# Altium schematic symbol library DE-260124.SchLib: 109 symbols (part 2 of 2)
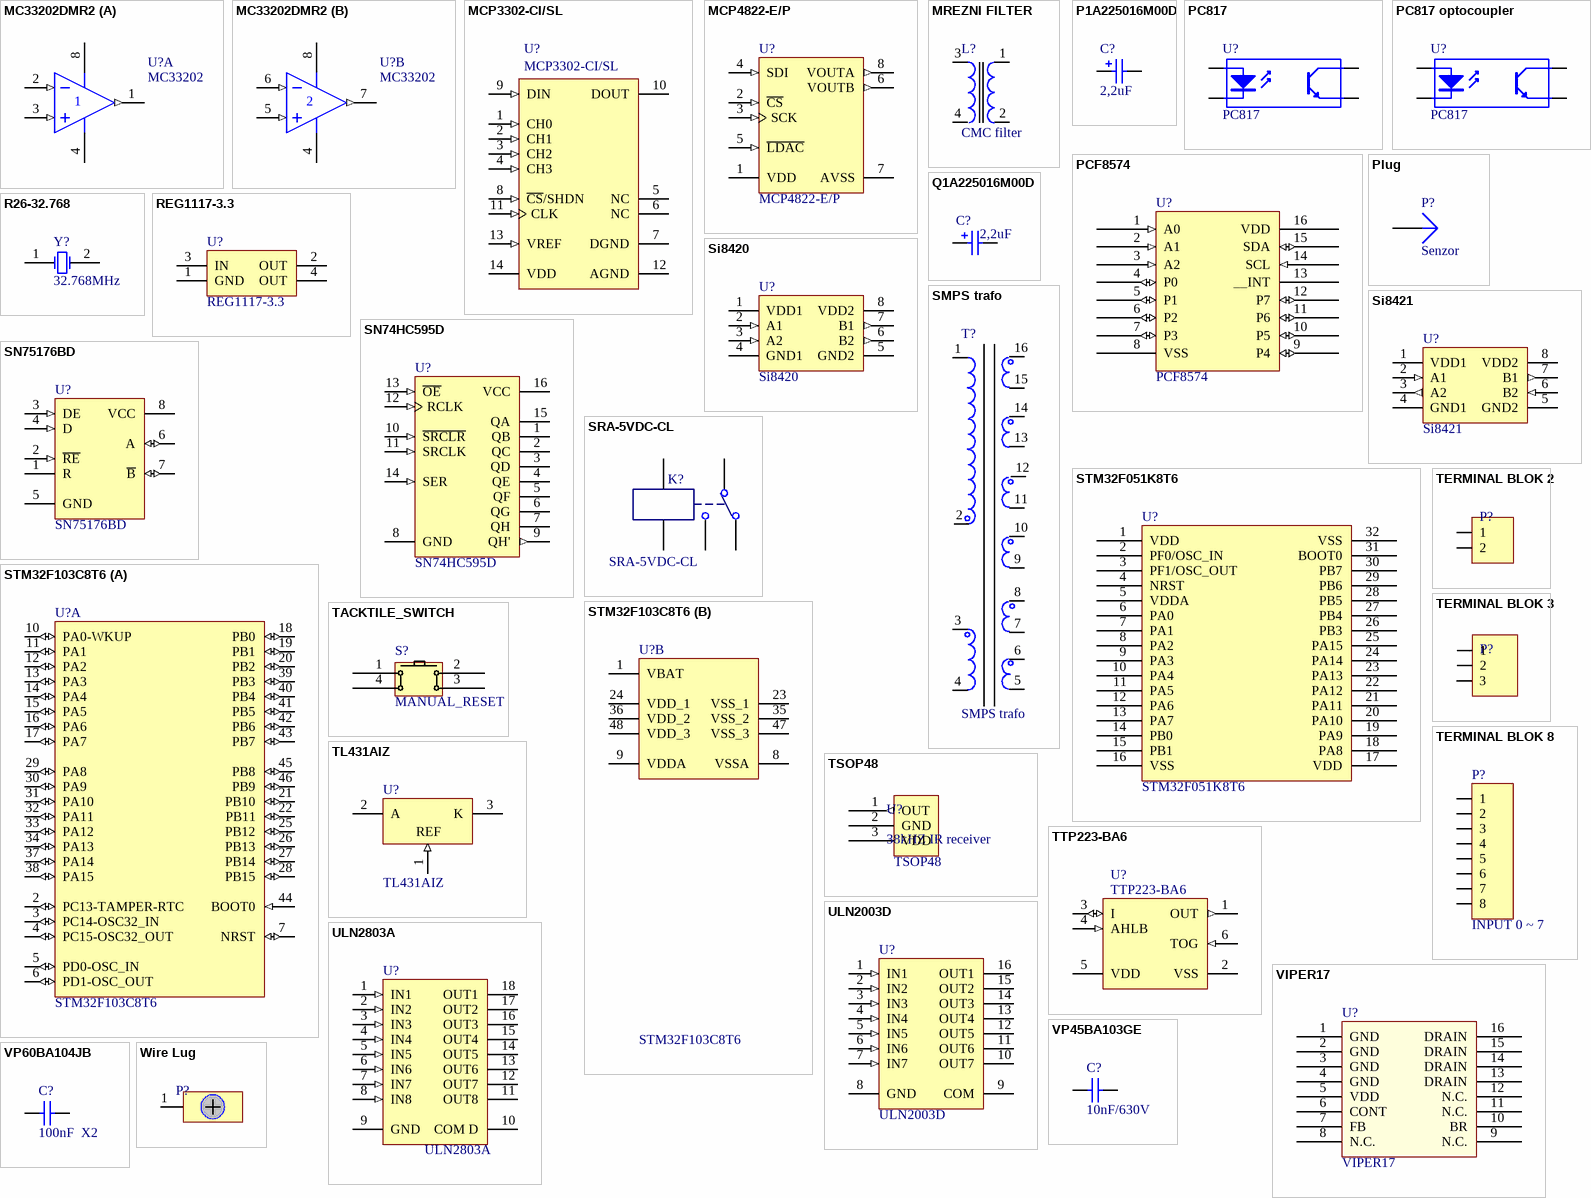
[diagram p3: symbols MC33202DMR2 to Wire Lug]

## MCP4822-E/P
designator U?
12-Bit DACs with Internal VREF and SPI Interface, 8-Pin PDIP, Extended Temperature; Published: 29-Jan-2009; DatasheetVersion: revA, Jun-2005; PackageVersion: revBB, Aug-2009; PackageReference: PDIP300-P8; Publisher: Altium Limited; PackageDescription: 8-Lead Plastic Dual In-Line (P) - 300 mil Body [PDIP]; Supplier 1: Digi-Key; Supplier Part Number 1: MCP4822-E/P-ND; Supplier 2: Farnell; Supplier Part Number 2: 1439413; Code_JEDEC: MS-001; ComponentLink1Description: Datasheet; ComponentLink1URL: http://ww1.microchip.com/downloads/en/DeviceDoc/21953a.pdf; ComponentLink2Description: Packaging Specification; ComponentLink2URL: http://www.microchip.com/stellent/groups/techpub_sg/documents/packagingspec/en012702.pdf; ComponentLink3Description: Microchip.com Home; ComponentLink3URL: http://www.microchip.com/
footprint PDIP300-P8 (DIP, 8-Leads, Row Spacing 7.62mm, Pitch 2.54mm, Body 9.5x6.6mm)
pins: 1 VDD (power), 2 ~{CS} (in), 3 SCK (in), 4 SDI (in), 5 ~{LDAC} (in), 6 VOUTB (out), 7 AVSS (power), 8 VOUTA (out)

## MREZNI FILTER
designator L?, comment CMC filter
footprint MREZNI FILTER (Filter mrežnih smetnji)
pins: 1, 2, 3, 4

## P1A225016M00D
designator C?, comment 2,2uF
Resin-Coated, Radial-Leaded Solid Tantalum Capacitor: 2.2uF, 20% Tolerance, UR = 16 Volt @ +85°C, Surge = 20.8V; Note: See Data Sheet for full range of components; Published: 19-Mar-2004; DatasheetDocument: 28-Mar-2002; PackageReference: ETPW-1A; Publisher: Altium Limited; ComponentLink1Description: Manufacturer Link; ComponentLink1URL: http://www.vishay.com/; ComponentLink2Description: Datasheet; ComponentLink2URL: http://www.vishay.com/docs/42074/etpw.pdf; Value: 2.2uF
footprint ETPW-1A (Capacitor, Tantalum Bead; Body 4 x 7.1 mm (Dia.xH max); Pin Spacing 2.5 mm (typ))
simulation model CAP (Capacitor)
signal-integrity model P1A225016M00D
pins: 1, 2
1 alternate drawing of the same symbol

## PC817
designator U?
4-Pin Phototransistor Optocoupler; Published: 24-Mar-1999; LatestRevisionDate: 04-Mar-2005; LatestRevisionNote: Sch pins 3 & 4 Swapped.; DatasheetVersion: Nov-2003; PackageReference: DIP-4; Publisher: Altium Limited
footprint DIP-4 (DIP; 4 Leads; Row Spacing 7.62 mm; Pitch 2.54 mm)
pins: 1 A "Anode", 2 K "Cathode", 3 E "Emitter", 4 C "Collector"

## PC817 optocoupler
designator U?, comment PC817
4-Pin Phototransistor Optocoupler; Published: 24-Mar-1999; LatestRevisionDate: 04-Mar-2005; LatestRevisionNote: Sch pins 3 & 4 Swapped.; DatasheetVersion: Nov-2003; PackageReference: DIP-4; Publisher: Altium Limited
footprint SOP4
pins: 1 A "Anode", 2 K "Cathode", 3 E "Emitter", 4 C "Collector"

## PCF8574
designator U?
Remote 8-bit I/O expander for I2C-bus
footprint DIP16
pins: 1 A0 (in), 2 A1 (in), 3 A2 (in), 4 P0 (io), 5 P1 (io), 6 P2 (io), 7 P3 (io), 8 VSS (power), 9 P4 (io), 10 P5 (io), 11 P6 (io), 12 P7 (io), 13 __INT, 14 SCL (in), 15 SDA (io), 16 VDD (power)

## Plug
designator P?, comment Senzor
Plug; LatestRevisionDate: 17-Jul-2002; LatestRevisionNote: Re-released for DXP Platform.; Publisher: Altium Limited
footprint PIN1 (Connector; Plug)
signal-integrity model Connector
pins: 1

## Q1A225016M00D
designator C?, comment 2,2uF
Resin-Coated, Radial-Lead Solid Tantalum Capacitor: 2.2uF, 20% Tolerance, UR = 16 Volt @ +85°C, Surge = 20.8V; Note: See Data Sheet for full range of components; Published: 19-Mar-2004; DatasheetDocument: 28-Mar-2002; PackageReference: ETQW-1A; Publisher: Altium Limited; ComponentLink1Description: Manufacturer Link; ComponentLink1URL: http://www.vishay.com/; ComponentLink2Description: Datasheet; ComponentLink2URL: http://www.vishay.com/docs/42075/etqw.pdf; Value: 2.2uF
footprint ETQW-1A (Capacitor, Tantalum Bead; Body 4.5 x 7.5 mm (Dia.xH max); Pin Spacing 2.5 mm (typ))
simulation model CAP (Capacitor)
signal-integrity model Q1A225016M00D
pins: 1, 2
1 alternate drawing of the same symbol

## R26-32.768
designator Y?, comment 32.768MHz
Tuning Fork Crystal Unit; Published: 8-Jun-2000; LatestRevisionDate: 17-Jul-2002; LatestRevisionNote: Re-released for DXP Platform.; DatasheetDocument: 28-Sep-1998; PackageReference: R26; Publisher: Altium Limited; ComponentLink1Description: Manufacturer Link; ComponentLink1URL: http://www.raltron.com/products/microcrystals/default.asp; ComponentLink2Description: Datasheet; ComponentLink2URL: http://www.raltron.com/products/pdfspecs/crystal_r38_26_145.pdf
footprint R26 (Crystal, Thru-Hole; 2 Leads; Body 2.1 x 6.2 mm (Dia.xH))
simulation model R26-32.768 (SUBCKT)
pins: 1 OSC1, 2 OSC2

## REG1117-3.3
designator U?
800mA and 1A Low Dropout Positive Regulator 2.85V, 3.3V, 5V, and Adjustable; Published: 8-Jun-2000; LatestRevisionDate: 17-Jul-2002; LatestRevisionNote: Re-released for DXP Platform.; DatasheetVersion: Sep-1997; PackageVersion: revC; PackageReference: ZZ311; Publisher: Altium Limited; PackageDescription: SOT-223/SC-73; 4 Leads; Body 6.7 x 7.3 mm, inc. leads (LxW max); ComponentLink1Description: Manufacturer Link; ComponentLink1URL: http://www.ti.com/; ComponentLink2Description: Datasheet; ComponentLink2URL: http://www-s.ti.com/sc/ds/REG1117.pdf
footprint ZZ311 (SOT-223/SC-73; 4 Leads; Body 6.7 x 7.3 mm, inc. leads (LxW max))
pins: 1 GND (power), 2 OUT (power), 3 IN (power), 4 OUT (power)

## Si8420
designator U?
Silicon Labs digital signal isolator
footprint SOP8
pins: 1 VDD1 (power), 2 A1 (in), 3 A2 (in), 4 GND1 (power), 5 GND2 (power), 6 B2 (out), 7 B1 (out), 8 VDD2 (power)

## Si8421
designator U?
Silicon Labs low power dual chanel digital isolator
footprint SOP8
pins: 1 VDD1 (power), 2 A1 (in), 3 A2 (out), 4 GND1 (power), 5 GND2 (power), 6 B2 (in), 7 B1 (out), 8 VDD2 (power)

## SMPS trafo
designator T?
SMPS EI core ferrite trafo
footprint PSU trafo (SMPSU feritni trafo)
pins: 1, 2, 3, 4, 5, 6, 7, 8, 9, 10, 11, 12, 13 113, 14 114, 15 115, 16 116

## SN74HC595D
designator U?
8-Bit Shift Register with 3-State Output Registers; Published: 8-Jun-2000; LatestRevisionDate: 13-Apr-2006; LatestRevisionNote: IPC-7351 Footprint Added.; DatasheetVersion: May-1997; PackageVersion: Jan-1998; PackageReference: D016; Publisher: Altium Limited; PackageDescription: 16-Pin Small Outline Integrated Circuit 1.27 mm Pitch; Code_IPC: SOIC127P600-16; ComponentLink1Description: Manufacturer Link; ComponentLink1URL: http://www.ti.com/; ComponentLink2Description: Datasheet; ComponentLink2URL: http://www-s.ti.com/sc/ds/sn74hc595.pdf
footprint D016_N (SOIC, 16-Leads, Body 9.9x3.9mm, Pitch 1.27mm, IPC Medium Density)
footprint D016_L (SOIC, 16-Leads, Body 9.9x3.9mm, Pitch 1.27mm, IPC High Density)
footprint D016_M (SOIC, 16-Leads, Body 9.9x3.9mm, Pitch 1.27mm, IPC Low Density)
3D model D016 (16-Pin Small Outline Integrated Circuit 1.27 mm Pitch)
signal-integrity model SN74HC595D
pins: 1 QB (hiz), 2 QC (hiz), 3 QD (hiz), 4 QE (hiz), 5 QF (hiz), 6 QG (hiz), 7 QH (hiz), 8 GND (power), 9 QH' (out), 10 ~{SRCLR} (in), 11 SRCLK (in), 12 RCLK (in), 13 ~{OE} (in), 14 SER (in), 15 QA (hiz), 16 VCC (power)

## SN75176BD
designator U?
Differential Bus Transceiver; Note: Receiver Hysteresis of 50mV Typical; Published: 15-May-2002; LatestRevisionDate: 13-Apr-2006; LatestRevisionNote: IPC-7351 Footprint Added.; DatasheetVersion: Sep-1989; PackageVersion: Jan-1998; PackageReference: D008; Publisher: Altium Limited; PackageDescription: 8-Pin Small Outline Integrated Circuit 1.27 mm Pitch; Code_IPC: SOIC127P600-8; ComponentLink1Description: Manufacturer Link; ComponentLink1URL: http://www.ti.com/; ComponentLink2Description: Datasheet; ComponentLink2URL: http://www-s.ti.com/sc/ds/sn75176b.pdf
footprint D008_N (SOIC, 8-Leads, Body 4.9x3.9mm, Pitch 1.27mm, IPC Medium Density)
footprint D008_L (SOIC, 8-Leads, Body 4.9x3.9mm, Pitch 1.27mm, IPC High Density)
footprint D008_M (SOIC, 8-Leads, Body 4.9x3.9mm, Pitch 1.27mm, IPC Low Density)
3D model D008 (8-Pin Small Outline Integrated Circuit 1.27 mm Pitch)
pins: 1 R (hiz), 2 ~{RE} (in), 3 DE (in), 4 D (in), 5 GND (power), 6 A (io), 7 ~{B} (io), 8 VCC (power)

## SRA-5VDC-CL
designator K?
SPDT PCB relay 5Vdc coil
footprint SRA-5VDC-CL (SPDT PCB Relay 5Vdc coil)
pins: 1 "COM", 2 "Coil", 3 "NO", 4 "NC", 5 "Coil"

## STM32F051K8T6
designator U?
footprint Quad32 (STM32 QLF32 package)
pins: 1 VDD, 2 PF0/OSC_IN, 3 PF1/OSC_OUT, 4 NRST, 5 VDDA, 6 PA0, 7 PA1, 8 PA2, 9 PA3, 10 PA4, 11 PA5, 12 PA6, 13 PA7, 14 PB0, 15 PB1, 16 VSS, 17 VDD, 18 PA8, 19 PA9, 20 PA10, 21 PA11, 22 PA12, 23 PA13, 24 PA14, 25 PA15, 26 PB3, 27 PB4, 28 PB5, 29 PB6, 30 PB7, 31 BOOT0, 32 VSS

## STM32F103C8T6
designator U?
ARM Cortex-M3 32-bit MCU, 64 KB Flash, 20 KB Internal RAM, 37 I/Os, 48-pin LQFP, -40 to 85 degC, Tray; A/D Converter: 2x12-bit (10 Channel); FLASH Size (Prog) (kB): 64; I/Os (High Current): 37; Internal RAM Size (kB): 20; Operating Frequency(F) (Processor speed) (MHz): 72; Supply Voltage(Vcc) min (V): 2; DatasheetVersion: Rev. 16; PackageVersion: Rev. 6, 06/2013; PackageReference: LQFP48; PackageDescription: 48-Pin Low Profile Quad Flat Package, 7 x 7 mm Body, 0.5 mm Pitch; Supplier 1: Digi-Key; Supplier Part Number 1: 497-6063-ND; Supplier 2: Farnell; Supplier Part Number 2: 1447637; Supplier 3: Newark; Supplier Part Number 3: 59M2182; Supplier 4: Newark; Supplier Part Number 4: 57P1222; Supplier 5: Mouser; Supplier Part Number 5: 511-STM32F103C8T6; Core: ARM Cortex-M3; Packing: Tray; Mounting Technology: Surface Mount; PartNumber: STM32F103C8T6; ComponentLink1Description: Manufacturer URL; ComponentLink1URL: http://www.st.com/web/en/home.html; ComponentLink2Description: Datasheet; ComponentLink2URL: http://www.st.com/st-web-ui/static/active/en/resource/technical/document/datasheet/CD00161566.pdf; ComponentLink3Description: Package Specification; ComponentLink3URL: http://www.st.com/st-web-ui/static/active/en/resource/technical/document/datasheet/DM00058181.pdf
footprint STM-LQFP48_N (QFP, 48-Leads, Body 7x7mm, Pitch 0.5mm, IPC Medium Density)
footprint STM-LQFP48_L (QFP, 48-Leads, Body 7x7mm, Pitch 0.5mm, IPC High Density)
footprint STM-LQFP48_M (QFP, 48-Leads, Body 7x7mm, Pitch 0.5mm, IPC Low Density)
part A pins: 2 PC13-TAMPER-RTC (io) "PC13-TAMPER-RTC/PC13/TAMPER-RTC", 3 PC14-OSC32_IN (io) "PC14-OSC32_IN/PC14/OSC32_IN", 4 PC15-OSC32_OUT (io) "PC15-OSC32_OUT/PC15/OSC32_OUT", 5 PD0-OSC_IN (io) "PD0/OSC_IN", 6 PD1-OSC_OUT (io) "PD1/OSC_OUT", 7 NRST (io), 10 PA0-WKUP (io) "PA0-WKUP/PA0/WKUP/USART2_CTS/ADC12_IN0/TIM2_CH1_ETR", 11 PA1 (io) "PA1/USART2_RTS/ADC12_IN1/TIM2_CH2", 12 PA2 (io) "PA2/USART2_TX/ADC12_IN2/TIM2_CH3", 13 PA3 (io) "PA3/USART2_RX/ADC12_IN3/TIM2_CH4", 14 PA4 (io) "PA4/SPI1_NSS/USART2_CK/ADC12_IN4", 15 PA5 (io) "PA5/SPI1_SCK/ADC12_IN5", 16 PA6 (io) "PA6/SPI1_MISO/ADC12_IN6/TIM3_CH1/TIM1_BKIN", 17 PA7 (io) "PA7/SPI1_MOSI/ADC12_IN7/TIM3_CH2/TIM1_CH1N", 18 PB0 (io) "PB0/ADC12_IN8/TIM3_CH3/TIM1_CH2N", 19 PB1 (io) "PB1/ADC12_IN9/TIM3_CH4/TIM1_CH3N", 20 PB2 (io) "PB2/BOOT1", 21 PB10 (io) "PB10/I2C2_SCL/USART3_TX/TIM2_CH3", 22 PB11 (io) "PB11/I2C2_SDA/USART3_RX/TIM2_CH4", 25 PB12 (io) "PB12/SPI2_NSS/I2C2_SMBAl/USART3_CK/TIM1_BKIN", 26 PB13 (io) "PB13/SPI2_SCK/USART3_CTS/TIM1_CH1N", 27 PB14 (io) "PB14/SPI2_MISO/USART3_RTS/TIM1_CH2N", 28 PB15 (io) "PB15/SPI2_MOSI/TIM1_CH3N", 29 PA8 (io) "PA8/USART1_CK/TIM1_CH1/MCO", 30 PA9 (io) "PA9/USART1_TX/TIM1_CH2", 31 PA10 (io) "PA10/USART1_RX/TIM1_CH3", 32 PA11 (io) "PA11/USART1_CTS/CANRX/USBDM/TIM1_CH4", 33 PA12 (io) "PA12/USART1_RTS/CANTX/USBDP/TIM1_ETR", 34 PA13 (io) "PA13/JTMS/SWDIO", 37 PA14 (io) "PA14/JTCK/SWCLK", 38 PA15 (io) "PA15/JTDI/TIM2_CH1_ETR/SPI1_NSS", 39 PB3 (io) "PB3/JTDO/TIM2_CH2/TRACESWO/SPI1_SCK", 40 PB4 (io) "PB4/NJTRST/TIM3_CH1/SPI1_MISO", 41 PB5 (io) "PB5/I2C1_SMBAI/TIM3_CH2/SPI1_MOSI", 42 PB6 (io) "PB6/I2C1_SCL/TIM4_CH1/USART1_TX", 43 PB7 (io) "PB7/I2C1_SDA/TIM4_CH2/USART1_RX", 44 BOOT0 (in), 45 PB8 (io) "PB8/TIM4_CH3/I2C1_SCL/CANRX", 46 PB9 (io) "PB9/TIM4_CH4/I2C1_SDA/CANTX"
part B pins: 1 VBAT (power), 8 VSSA (power), 9 VDDA (power), 23 VSS_1 (power), 24 VDD_1 (power), 35 VSS_2 (power), 36 VDD_2 (power), 47 VSS_3 (power), 48 VDD_3 (power)

## TACKTILE_SWITCH
designator S?, comment MANUAL_RESET
footprint TACTILE_SWITCH (PCB push button)
pins: 1, 2, 3, 4

## TERMINAL BLOK 2
designator P?  (value not drawn)
2 pinski terminal blok
footprint TERMINAL BLOK 2 (2 pinski terminal blok konektor)
pins: 1, 2

## TERMINAL BLOK 3
designator P?  (value not drawn)
3 pinski terminal blok konektor
footprint TERMINAL BLOK 3 (3 pinski terminal blok konektor)
pins: 1, 2, 3

## TERMINAL BLOK 8
designator P?, comment INPUT 0 ~ 7
8 pin terminal cable connector
footprint 8 PIN TERMINAL BLOCK (8 pin cable terminal connector)
pins: 1, 2, 3, 4, 5, 6, 7, 8

## TL431AIZ
designator U?
Programmable Voltage Reference; Published: 24-Aug-2001; LatestRevisionDate: 17-Jul-2002; LatestRevisionNote: Re-released for DXP Platform.; DatasheetVersion: Nov-1998; PackageReference: TO92; Publisher: Altium Limited; PackageDescription: TO, Flat Index; 3 In-Line, Axial Leads; Body Dia. 4.8mm; Leads 0.51 x 0.51 mm (max); ComponentLink1Description: Manufacturer Link; ComponentLink1URL: http://www.st.com/; ComponentLink2Description: Datasheet; ComponentLink2URL: http://www.st.com/stonline/products/literature/ds/4467/tl431.pdf
footprint TO92 (TO, Flat Index; 3 In-Line, Axial Leads; Body Dia. 4.8mm; Leads 0.51 x 0.51 mm (max))
pins: 1 REF (in), 2 A, 3 K

## TSOP48
designator U?, comment 38kHZ IR receiver  value TSOP48
IR Receiver Modules for Remote Control Systems
footprint TSOP48 (38kHZ IR receiver)
pins: 1 OUT (out), 2 GND (power), 3 VDD (power)

## TTP223-BA6
designator U?
One-channel Toggle-mode Touch Sensor IC with Power Management Functions, 6-pin SOT23; Published: 1-Apr-2010; DatasheetVersion: revCS, Feb-2010; PackageVersion: revA, Jun-2008; PackageReference: 6ST1; Publisher: Altium Limited; PackageDescription: 6-Lead, 2.90 x 1.60 mm Plastic Small Outline Package (SOT23); Code_JEDEC: MO-178-AB; Code_IPC: SOT26A-6; ComponentLink1Description: Manufacturer Link; ComponentLink1URL: http://www.atmel.com/products/overview_touch.asp?; ComponentLink2Description: AT42QT1012 Summary; ComponentLink2URL: http://www.atmel.com/dyn/resources/prod_documents/9543S.pdf; ComponentLink3Description: Atmel.com Home; ComponentLink3URL: http://www.atmel.com
footprint 6ST1_N (SOT23, 6-Leads, Body 2.9x1.6mm, Pitch 0.95mm, Lead Span 2.7mm, IPC Medium Density)
footprint 6ST1_L (SOT23, 6-Leads, Body 2.9x1.6mm, Pitch 0.95mm, Lead Span 2.7mm, IPC High Density)
footprint 6ST1_M (SOT23, 6-Leads, Body 2.9x1.6mm, Pitch 0.95mm, Lead Span 2.7mm, IPC Low Density)
pins: 1 OUT (out), 2 VSS (power), 3 I (io), 4 AHLB (in), 5 VDD (power), 6 TOG (in)

## ULN2003D
designator U?
Seven Darlington Array; Published: 8-Jun-2000; LatestRevisionDate: 13-Apr-2006; LatestRevisionNote: IPC-7351 Footprint Added.; DatasheetVersion: Sep-1998; PackageVersion: May-1998; PackageReference: SO16; Publisher: Altium Limited; PackageDescription: 16-Pin Small Outline Integrated Circuit 1.27 mm Pitch; Code_IPC: SOIC127P600-16; ComponentLink1Description: Manufacturer Link; ComponentLink1URL: http://www.st.com/; ComponentLink2Description: Datasheet; ComponentLink2URL: http://www.st.com/stonline/products/literature/ds/5279/uln2001.pdf
footprint SO16_N (SOIC, 16-Leads, Body 9.9x3.9mm, Pitch 1.27mm, IPC Medium Density)
footprint SO16_L (SOIC, 16-Leads, Body 9.9x3.9mm, Pitch 1.27mm, IPC High Density)
footprint SO16_M (SOIC, 16-Leads, Body 9.9x3.9mm, Pitch 1.27mm, IPC Low Density)
3D model SO16 (16-Pin Small Outline Integrated Circuit 1.27 mm Pitch)
pins: 1 IN1 (in), 2 IN2 (in), 3 IN3 (in), 4 IN4 (in), 5 IN5 (in), 6 IN6 (in), 7 IN7 (in), 8 GND (power), 9 COM, 10 OUT7 (oc), 11 OUT6 (oc), 12 OUT5 (oc), 13 OUT4 (oc), 14 OUT3 (oc), 15 OUT2 (oc), 16 OUT1 (oc)

## ULN2803A
designator U?
High-Voltage, High-Current Darlington Array; Published: 13-Oct-2000; LatestRevisionDate: 06-Jun-2005; LatestRevisionNote: Stylized 3D Model Added.; DatasheetVersion: 1999; PackageVersion: 1999; PackageReference: A18; Publisher: Altium Limited; PackageDescription: DIP; 18 Leads; Row Spacing 7.62 mm; Pitch 2.54 mm; ComponentLink1Description: Manufacturer Link; ComponentLink1URL: http://www.allegromicro.com/
footprint SOP18
pins: 1 IN1 (in), 2 IN2 (in), 3 IN3 (in), 4 IN4 (in), 5 IN5 (in), 6 IN6 (in), 7 IN7 (in), 8 IN8 (in), 9 GND (power), 10 COM D, 11 OUT8 (oc), 12 OUT7 (oc), 13 OUT6 (oc), 14 OUT5 (oc), 15 OUT4 (oc), 16 OUT3 (oc), 17 OUT2 (oc), 18 OUT1 (oc)

## VIPER17
designator U?
footprint SOP16
pins: 1 GND (power), 2 GND (power), 3 GND (power), 4 GND (power), 5 VDD (power), 6 CONT, 7 FB, 8 N.C., 9 N.C., 10 BR, 11 N.C., 12 N.C., 13 DRAIN (oc), 14 DRAIN (oc), 15 DRAIN (oc), 16 DRAIN (oc)

## VP45BA103GE
designator C?, comment 10nF/630V
Dipped Radial Multilayer Ceramic Capacitor COG (NPO): 10nF, 500V; Published: 17-Dec-2003; DatasheetDocument: 2-Jan-2002; PackageDocument: 2-Jan-2002; PackageReference: VP45-3.2; Publisher: Altium Limited; ComponentLink1Description: Manufacturer Link; ComponentLink1URL: http://www.vishay.com/; Value: 10nF
footprint VP45-3.2 (Capacitor, Ceramic, Thru-Hole, Dipped Radial; Body 7.8 x 3.2 mm (WxT) Pin Spacing 5.08 mm (typ))
simulation model CAP (Capacitor)
signal-integrity model Cap
pins: 1, 2

## VP60BA104JB
designator C?, comment 100nF  X2
Dipped Radial Multilayer Ceramic Capacitor COG (NPO): 100nF, 100V; Published: 17-Dec-2003; LatestRevisionDate: 19-Mar-2004; LatestRevisionNote: PCB Footprint - Drill hole diameter reduced.; DatasheetDocument: 2-Jan-2002; PackageDocument: 2-Jan-2002; PackageReference: VP60-3.6; Publisher: Altium Limited; ComponentLink1Description: Manufacturer Link; ComponentLink1URL: http://www.vishay.com/; Value: 100nF
footprint VP60-3.6 (Capacitor, Ceramic, Thru-Hole, Dipped Radial; Body 11.5 x 3.6 mm (WxT) Pin Spacing 10.16 mm (typ))
simulation model CAP (Capacitor)
signal-integrity model Cap
pins: 1, 2

## Wire Lug
designator P?, comment Single Wire Lug  (value not drawn)
footprint Single Wire Lug (Single Wire terminal Connector)
pins: 1